# Altium schematic symbol library adc_temp.SchLib: 8 symbols
Pins are listed as number, name and electrical type; pins without a type are passive.

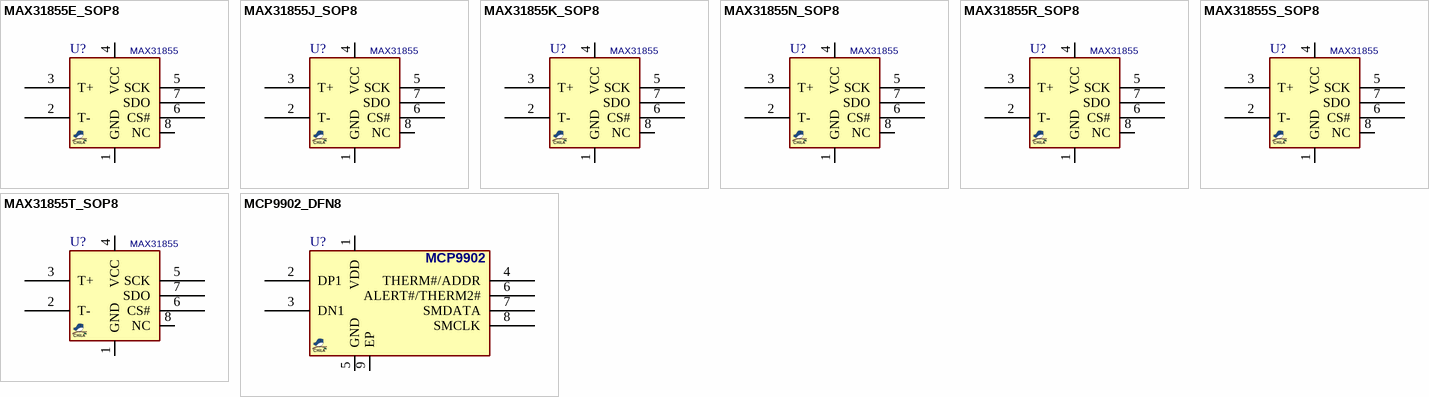
[diagram p0: symbols MAX31855E_SOP8 to MCP9902_DFN8]

## MAX31855E_SOP8
designator U?, comment MAX31855
Thermocouple ADC, Type E, -270~+1000oC; MANF: Maxim Integrated; MANF_P#: MAX31855EASA+; PARAM2: 3.3VCC; PARAM: 10 mV/oC; PRICE: -; VALUE: MAX31855
footprint SO_8 (SOP-8, 5x3.9mm body 1.27mm pitch, SOT96-1, M08A, S8, SOIC8, VO8, MS-012AA(JEDEC), R-8, 8S2, VOG8)
pins: 1 GND, 2 T-, 3 T+, 4 VCC, 5 SCK, 6 CS#, 7 SDO, 8 NC
2 alternate drawings of the same symbol

## MAX31855J_SOP8
designator U?, comment MAX31855
Thermocouple ADC, Type J, -200~+1200oC; MANF: Maxim Integrated; MANF_P#: MAX31855JASA+; PARAM2: 3.3VCC; PARAM: 10 mV/oC; PRICE: -; VALUE: MAX31855
footprint SO_8 (SOP-8, 5x3.9mm body 1.27mm pitch, SOT96-1, M08A, S8, SOIC8, VO8, MS-012AA(JEDEC), R-8, 8S2, VOG8)
pins: 1 GND, 2 T-, 3 T+, 4 VCC, 5 SCK, 6 CS#, 7 SDO, 8 NC
2 alternate drawings of the same symbol

## MAX31855K_SOP8
designator U?, comment MAX31855
Thermocouple ADC, Type K, -200~+1350oC; MANF: Maxim Integrated; MANF_P#: MAX31855KASA+; PARAM2: 3.3VCC; PARAM: 10 mV/oC; PRICE: 17t@JAVAN; VALUE: MAX31855
footprint SO_8 (SOP-8, 5x3.9mm body 1.27mm pitch, SOT96-1, M08A, S8, SOIC8, VO8, MS-012AA(JEDEC), R-8, 8S2, VOG8)
pins: 1 GND, 2 T-, 3 T+, 4 VCC, 5 SCK, 6 CS#, 7 SDO, 8 NC
2 alternate drawings of the same symbol

## MAX31855N_SOP8
designator U?, comment MAX31855
Thermocouple ADC, Type N, -200~+1300oC; MANF: Maxim Integrated; MANF_P#: MAX31855NASA+; PARAM2: 3.3VCC; PARAM: 10 mV/oC; PRICE: -; VALUE: MAX31855
footprint SO_8 (SOP-8, 5x3.9mm body 1.27mm pitch, SOT96-1, M08A, S8, SOIC8, VO8, MS-012AA(JEDEC), R-8, 8S2, VOG8)
pins: 1 GND, 2 T-, 3 T+, 4 VCC, 5 SCK, 6 CS#, 7 SDO, 8 NC
2 alternate drawings of the same symbol

## MAX31855R_SOP8
designator U?, comment MAX31855
Thermocouple ADC, Type R, -50~+1700oC; MANF: Maxim Integrated; MANF_P#: MAX31855RASA+; PARAM2: 3.3VCC; PARAM: 10 mV/oC; PRICE: -; VALUE: MAX31855
footprint SO_8 (SOP-8, 5x3.9mm body 1.27mm pitch, SOT96-1, M08A, S8, SOIC8, VO8, MS-012AA(JEDEC), R-8, 8S2, VOG8)
pins: 1 GND, 2 T-, 3 T+, 4 VCC, 5 SCK, 6 CS#, 7 SDO, 8 NC
2 alternate drawings of the same symbol

## MAX31855S_SOP8
designator U?, comment MAX31855
Thermocouple ADC, Type S, -50~+1700oC; MANF: Maxim Integrated; MANF_P#: MAX31855SASA+; PARAM2: 3.3VCC; PARAM: 10 mV/oC; PRICE: -; VALUE: MAX31855
footprint SO_8 (SOP-8, 5x3.9mm body 1.27mm pitch, SOT96-1, M08A, S8, SOIC8, VO8, MS-012AA(JEDEC), R-8, 8S2, VOG8)
pins: 1 GND, 2 T-, 3 T+, 4 VCC, 5 SCK, 6 CS#, 7 SDO, 8 NC
2 alternate drawings of the same symbol

## MAX31855T_SOP8
designator U?, comment MAX31855
Thermocouple ADC, Type T, -270~+400oC; MANF: Maxim Integrated; MANF_P#: MAX31855TASA+; PARAM2: 3.3VCC; PARAM: 10 mV/oC; PRICE: -; VALUE: MAX31855
footprint SO_8 (SOP-8, 5x3.9mm body 1.27mm pitch, SOT96-1, M08A, S8, SOIC8, VO8, MS-012AA(JEDEC), R-8, 8S2, VOG8)
pins: 1 GND, 2 T-, 3 T+, 4 VCC, 5 SCK, 6 CS#, 7 SDO, 8 NC
2 alternate drawings of the same symbol

## MCP9902_DFN8
designator U?, comment MCP9902  (value not drawn)
Temp diode ADC, ±1°C, -40~+105°C; MANF: Microchip; MANF_P#: MCP9902T-1E/RW, MCP9902T-AE/RW; PARAM2: 3.3VCC; PARAM: ±1°C, -40~+105°C; PRICE: -; VALUE: MCP9902
footprint SON50_8T_2020 (DSG PWSON (TI), Pitch: 0.5mm 2x2x0.8mm with Thermal pad)
pins: 1 VDD, 2 DP1, 3 DN1, 4 THERM#/ADDR, 5 GND, 6 ALERT#/THERM2#, 7 SMDATA, 8 SMCLK, 9 EP
2 alternate drawings of the same symbol